# EAGLE library part SRBD110401 (library switches)
Rotary Switches 10 Detent/With boss
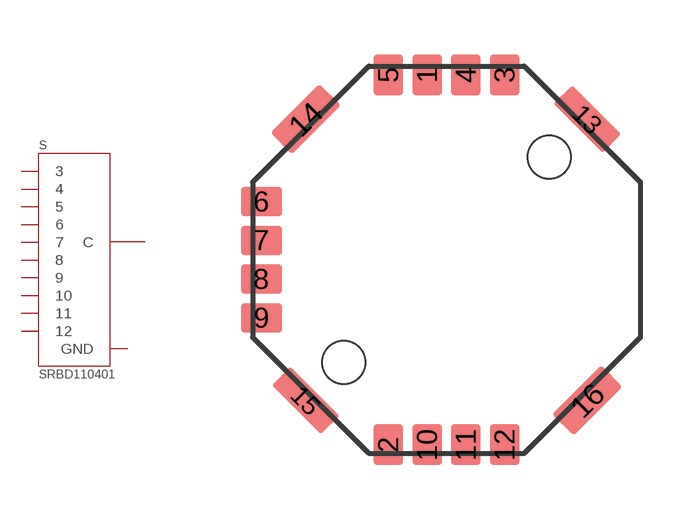
[diagram p1: symbol with the pads of SRBD110401; footprint SRBD110401]

Designator prefix S

## SRBD110401 (MF: ALPS; MP: SRBD110401; VALUE: SRBD110401)  [SRBD110401]
1  C
2  C
3  3
4  4
5  5
6  6
7  7
8  8
9  9
10  10
11  11
12  12
13  GND  pwr
14  GND  pwr
15  GND  pwr
16  GND  pwr

## Footprint SRBD110401 (pad centres in mm)
smd 0.75 x 1.05: 1 -0.5,4.775; 2 -1.5,-4.775; 3 1.5,4.775; 4 0.5,4.775; 5 -1.5,4.775; 10 -0.5,-4.775; 11 0.5,-4.775; 12 1.5,-4.775
smd 1.05 x 0.75: 6 -4.775,1.5; 7 -4.775,0.5; 8 -4.775,-0.5; 9 -4.775,-1.5
smd 1.8 x 0.686 rotated 315: 13 3.632,3.632; 15 -3.632,-3.632
smd 1.8 x 0.8 rotated 45: 14 -3.632,3.632; 16 3.632,-3.632
hole 1.1 at 2.65,2.65
hole 1.1 at -2.65,-2.65